# Altium integrated library STMicroelectronics STM32 F4.IntLib: 139 symbols (part 15 of 29)
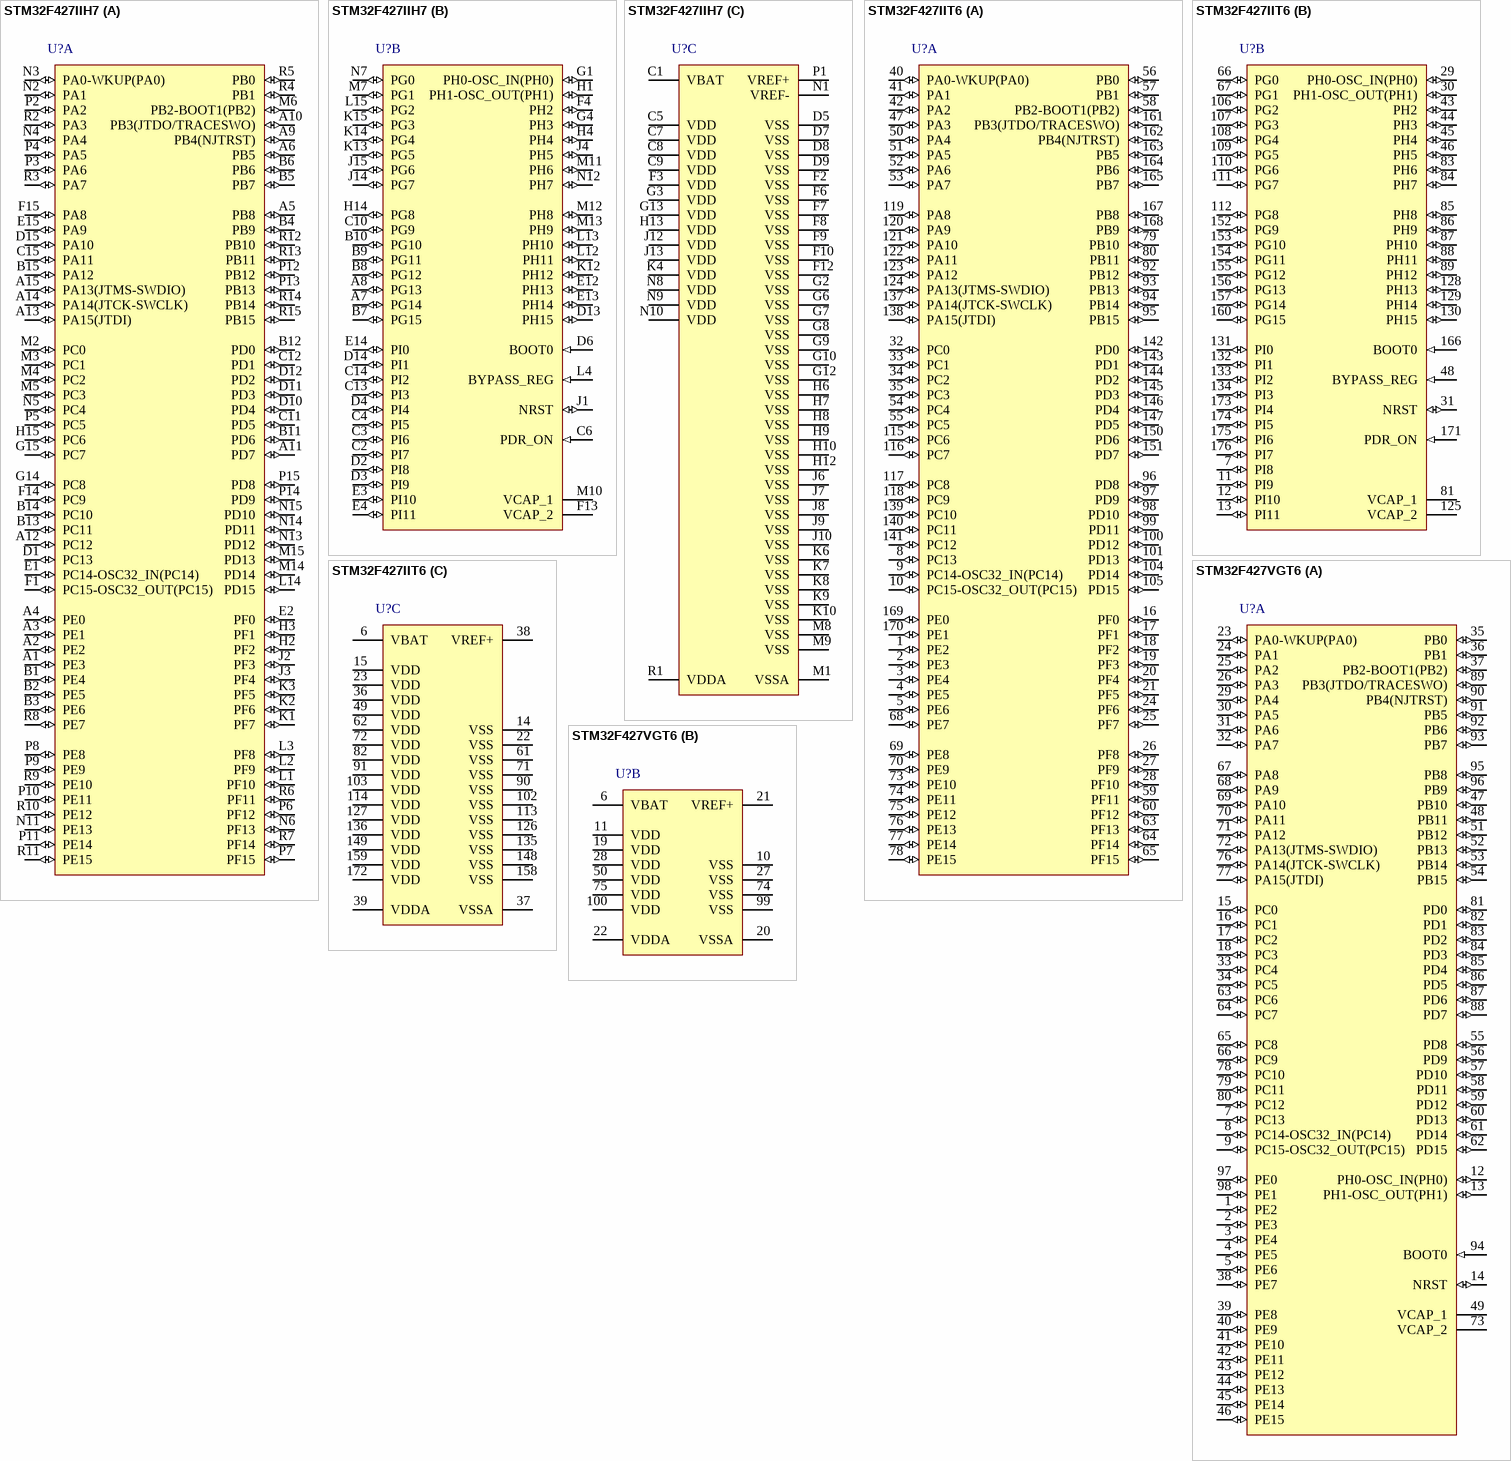
[diagram p53: symbols STM32F427IIH7 to STM32F427VGT6]

## STM32F427IIT6
designator U?
ARM Cortex-M4 32-bit MCU+FPU, 210 DMIPS, 2048 kB Flash, 256 kB Internal RAM, 140 I/Os, 176-pin LQFP, -40 to 85 degC, Tray; Manufacturer: STMicroelectronics; PartNumber: STM32F427IIT6; D/A Converter: 2x12-bit; FLASH Size (Prog) (kB): 2048; I/Os (High Current): 140; Internal RAM Size (kB): 256; Operating Frequency(F) (Processor speed) (MHz): 168; Supply Voltage(Vcc) max (V): 3.6; Supply Voltage(Vcc) min (V): 1.8; DatasheetVersion: Rev. 1; PackageVersion: Rev. 4, 06/2013; PackageReference: LQFP176; PackageDescription: 176-Pin Low Profile Quad Flat Package, 24 x 24 mm Body, 0.5 mm Pitch; Supplier 1: Digi-Key; Supplier Part Number 1: 497-14051-ND; Supplier 2: Farnell; Supplier Part Number 2: 2333367; Supplier 3: Newark; Supplier Part Number 3: 99W9925; Supplier 4: Newark; Supplier Part Number 4: 66W7310; Supplier 5: Mouser; Supplier Part Number 5: 511-STM32F427IIT6; Core: ARM Cortex-M4; Packing: Tray; Mounting Technology: Surface Mount; ComponentLink1Description: Manufacturer URL; ComponentLink1URL: http://www.st.com/web/en/home.html; ComponentLink2Description: Datasheet; ComponentLink2URL: http://www.st.com/st-web-ui/static/active/en/resource/technical/document/datasheet/DM00071990.pdf; ComponentLink3Description: Package Specification; ComponentLink3URL: http://www.st.com/st-web-ui/static/active/en/resource/technical/document/datasheet/DM00035129.pdf
footprint STM-LQFP176_N (Thin QFP, 176-Leads, Body 24x24mm, Pitch 0.5mm, IPC Medium Density)
footprint STM-LQFP176_L (Thin QFP, 176-Leads, Body 24x24mm, Pitch 0.5mm, IPC High Density)
footprint STM-LQFP176_M (Thin QFP, 176-Leads, Body 24x24mm, Pitch 0.5mm, IPC Low Density)
part A pins: 1 PE2 (io) "PE2/TRACECLK,FSMC_A23,ETH_MII_TXD3,EVENTOUT,SPI4_SCK", 2 PE3 (io) "PE3/TRACED0,FSMC_A19,EVENTOUT,SPI4_NSS", 3 PE4 (io) "PE4/TRACED1,FSMC_A20,DCMI_D4,EVENTOUT,SPI4_NSS", 4 PE5 (io) "PE5/TRACED2,FSMC_A21,TIM9_CH1,DCMI_D6,EVENTOUT,SPI4_MISO", 5 PE6 (io) "PE6/TRACED3,FSMC_A22,TIM9_CH2,DCMI_D7,EVENTOUT,SPI4_MOSI", 8 PC13 (io) "PC13/EVENTOUT/RTC_OUT,RTC_TAMP1,RTC_TS", 9 PC14-OSC32_IN(PC14) (io) "PC14-OSC32_IN(PC14)/EVENTOUT/OSC32_IN", 10 PC15-OSC32_OUT(PC15) (io) "PC15-OSC32_OUT(PC15)/EVENTOUT/OSC32_OUT", 16 PF0 (io) "PF0/FSMC_A0,I2C2_SDA,EVENTOUT", 17 PF1 (io) "PF1/FSMC_A1,I2C2_SCL,EVENTOUT", 18 PF2 (io) "PF2/FSMC_A2,I2C2_SMBA,EVENTOUT", 19 PF3 (io) "PF3/FSMC_A3,EVENTOUT/ADC3_IN9", 20 PF4 (io) "PF4/FSMC_A4,EVENTOUT/ADC3_IN14", 21 PF5 (io) "PF5/FSMC_A5,EVENTOUT/ADC3_IN15", 24 PF6 (io) "PF6/TIM10_CH1,FSMC_NIORD,EVENTOUT,SPI5_NSS,UART7_RX/ADC3_IN4", 25 PF7 (io) "PF7/TIM11_CH1,FSMC_NREG,EVENTOUT,SPI5_SCK,UART7_TX/ADC3_IN5", 26 PF8 (io) "PF8/TIM13_CH1,FSMC_NIOWR,EVENTOUT,SPI5_MISO/ADC3_IN6", 27 PF9 (io) "PF9/TIM14_CH1,FSMC_CD,EVENTOUT,SPI5_MOSI/ADC3_IN7", 28 PF10 (io) "PF10/FSMC_INTR,EVENTOUT,DCMI_D11/ADC3_IN8", 32 PC0 (io) "PC0/OTG_HS_ULPI_STP,EVENTOUT/ADC123_IN10", 33 PC1 (io) "PC1/ETH_MDC,EVENTOUT/ADC123_IN11", 34 PC2 (io) "PC2/SPI2_MISO,OTG_HS_ULPI_DIR,ETH_MII_TXD2,I2S2ext_SD,EVENTOUT/ADC123_IN12", 35 PC3 (io) "PC3/SPI2_MOSI/I2S2_SD,OTG_HS_ULPI_NXT,ETH_MII_TX_CLK,EVENTOUT/ADC123_IN13", 40 PA0-WKUP(PA0) (io) "PA0-WKUP(PA0)/USART2_CTS,UART4_TX,ETH_MII_CRS,TIM2_CH1_ETR,TIM5_CH1,TIM8_ETR,EVENTOUT/ADC123_IN0,WKUP", 41 PA1 (io) "PA1/USART2_RTS,UART4_RX,ETH_RMII_REF_CLK,ETH_MII_RX_CLK,TIM5_CH2,TIMM2_CH2,EVENTOUT/ADC123_IN1", 42 PA2 (io) "PA2/USART2_TX,TIM5_CH3,TIM9_CH1,TIM2_CH3,ETH_MDIO,EVENTOUT/ADC123_IN2", 47 PA3 (io) "PA3/USART2_RX,TIM5_CH4,TIM9_CH2,TIM2_CH4,OTG_HS_ULPI_D0,ETH_MII_COL,EVENTOUT/ADC123_IN3", 50 PA4 (io) "PA4/SPI1_NSS,SPI3_NSS,USART2_CK,DCMI_HSYNC,OTG_HS_SOF,I2S3_WS,EVENTOUT/ADC12_IN4,DAC1_OUT", 51 PA5 (io) "PA5/SPI1_SCK,OTG_HS_ULPI_CK,TIM2_CH1_ETR,TIM8_CH1N,EVENTOUT/ADC12_IN5,DAC2_OUT", 52 PA6 (io) "PA6/SPI1_MISO,TIM8_BKIN,TIM13_CH1,DCMI_PIXCLK,TIM3_CH1,TIM1_BKIN,EVENTOUT/ADC12_IN6", 53 PA7 (io) "PA7/SPI1_MOSI,TIM8_CH1N,TIM14_CH1,TIM3_CH2,ETH_MII_RX_DV,TIM1_CH1N,ETH_RMII_CRS_DV,EVENTOUT/ADC12_IN7", 54 PC4 (io) "PC4/ETH_RMII_RX_D0,ETH_MII_RX_D0,EVENTOUT/ADC12_IN14", 55 PC5 (io) "PC5/ETH_RMII_RX_D1,ETH_MII_RX_D1,EVENTOUT/ADC12_IN15", 56 PB0 (io) "PB0/TIM3_CH3,TIM8_CH2N,OTG_HS_ULPI_D1,ETH_MII_RXD2,TIM1_CH2N,EVENTOUT/ADC12_IN8", 57 PB1 (io) "PB1/TIM3_CH4,TIM8_CH3N,OTG_HS_ULPI_D2,ETH_MII_RXD3,TIM1_CH3N,EVENTOUT/ADC12_IN9", 58 PB2-BOOT1(PB2) (io) "PB2-BOOT1(PB2)/EVENTOUT", 59 PF11 (io) "PF11/DCMI_D12,EVENTOUT,SPI5_MOSI", 60 PF12 (io) "PF12/FSMC_A6,EVENTOUT", 63 PF13 (io) "PF13/FSMC_A7,EVENTOUT", 64 PF14 (io) "PF14/FSMC_A8,EVENTOUT", 65 PF15 (io) "PF15/FSMC_A9,EVENTOUT", 68 PE7 (io) "PE7/FSMC_D4,TIM1_ETR,EVENTOUT,UART7_RX", 69 PE8 (io) "PE8/FSMC_D5,TIM1_CH1N,EVENTOUT,UART7_TX", 70 PE9 (io) "PE9/FSMC_D6,TIM1_CH1,EVENTOUT", 73 PE10 (io) "PE10/FSMC_D7,TIM1_CH2N,EVENTOUT", 74 PE11 (io) "PE11/FSMC_D8,TIM1_CH2,EVENTOUT,SPI4_NSS", 75 PE12 (io) "PE12/FSMC_D9,TIM1_CH3N,EVENTOUT,SPI4_SCK", 76 PE13 (io) "PE13/FSMC_D10,TIM1_CH3,EVENTOUT,SPI4_MISO", 77 PE14 (io) "PE14/FSMC_D11,TIM1_CH4,EVENTOUT,SPI4_MOSI", 78 PE15 (io) "PE15/FSMC_D12,TIM1_BKIN,EVENTOUT", 79 PB10 (io) "PB10/SPI2_SCK/I2S2_CK,I2C2_SCL,USART3_TX,OTG_HS_ULPI_D3,ETH_MII_RX_ER,TIM2_CH3,EVENTOUT", 80 PB11 (io) "PB11/I2C2_SDA,USART3_RX,OTG_HS_ULPI_D4,ETH_RMII_TX_EN,ETH_MII_TX_EN,TIM2_CH4,EVENTOUT", 92 PB12 (io) "PB12/SPI2_NSS/I2S2_WS,I2C2_SMBA,USART3_CK,TIM1_BKIN,CAN2_RX,OTG_HS_ULPI_D5,ETH_RMII_TXD0,ETH_MII_TXD0,OTG_HS_ID,EVENTOUT", 93 PB13 (io) "PB13/SPI2_SCK/I2S2_CK,USART3_CTS,TIM1_CH1N,CAN2_TX,OTG_HS_ULPI_D6,ETH_RMII_TXD1,ETH_MII_TXD1,EVENTOUT/OTG_HS_VBUS", 94 PB14 (io) "PB14/SPI2_MISO,TIM1_CH2N,TIM12_CH1,OTG_HS_DM,USART3_RTS,TIM8_CH2N,I2S2ext_SD,EVENTOUT", 95 PB15 (io) "PB15/SPI2_MOSI/I2S2_SD,TIM1_CH3N,TIM8_CH3N,TIM12_CH2,OTG_HS_DP,EVENTOUT,RTC_REFIN", 96 PD8 (io) "PD8/FSMC_D13,USART3_TX,EVENTOUT", 97 PD9 (io) "PD9/FSMC_D14,USART3_RX,EVENTOUT", 98 PD10 (io) "PD10/FSMC_D15,USART3_CK,EVENTOUT", 99 PD11 (io) "PD11/FSMC_CLE,FSMC_A16,USART3_CTS,EVENTOUT", 100 PD12 (io) "PD12/FSMC_ALE,FSMC_A17,TIM4_CH1,USART3_RTS,EVENTOUT", 101 PD13 (io) "PD13/FSMC_A18,TIM4_CH2,EVENTOUT", 104 PD14 (io) "PD14/FSMC_D0,TIM4_CH3,EVENTOUT", 105 PD15 (io) "PD15/FSMC_D1,TIM4_CH4,EVENTOUT", 115 PC6 (io) "PC6/I2S2_MCK,TIM8_CH1,SDIO_D6,USART6_TX,DCMI_D0,TIM3_CH1,EVENTOUT", 116 PC7 (io) "PC7/I2S3_MCK,TIM8_CH2,SDIO_D7,USART6_RX,DCMI_D1,TIM3_CH2,EVENTOUT", 117 PC8 (io) "PC8/TIM8_CH3,SDIO_D0,TIM3_CH3,USART6_CK,DCMI_D2,EVENTOUT", 118 PC9 (io) "PC9/I2S_CKIN,MCO2,TIM8_CH4,SDIO_D1,I2C3_SDA,DCMI_D3,TIM3_CH4,EVENTOUT", 119 PA8 (io) "PA8/MCO1,USART1_CK,TIM1_CH1,I2C3_SCL,OTG_FS_SOF,EVENTOUT", 120 PA9 (io) "PA9/USART1_TX,TIM1_CH2,I2C3_SMBA,DCMI_D0,EVENTOUT/OTG_FS_VBUS", 121 PA10 (io) "PA10/USART1_RX,TIM1_CH3,OTG_FS_ID,DCMI_D1,EVENTOUT", 122 PA11 (io) "PA11/USART1_CTS,CAN1_RX,TIM1_CH4,OTG_FS_DM,EVENTOUT", 123 PA12 (io) "PA12/USART1_RTS,CAN1_TX,TIM1_ETR,OTG_FS_DP,EVENTOUT", 124 PA13(JTMS-SWDIO) (io) "PA13(JTMS-SWDIO)/JTMS-SWDIO,EVENTOUT", 137 PA14(JTCK-SWCLK) (io) "PA14(JTCK-SWCLK)/JTCK-SWCLK,EVENTOUT", 138 PA15(JTDI) (io) "PA15(JTDI)/JTDI,SPI3_NSS,I2S3_WS,TIM2_CH1_ETR,SPI1_NSS,EVENTOUT", 139 PC10 (io) "PC10/SPI3_SCK/I2S3_CK,UART4_TX,SDIO_D2,DCMI_D8,USART3_TX,EVENTOUT", 140 PC11 (io) "PC11/UART4_RX,SPI3_MISO,SDIO_D3,DCMI_D4,USART3_RX,I2S3ext_SD,EVENTOUT", 141 PC12 (io) "PC12/UART5_TX,SDIO_CK,DCMI_D9,SPI3_MOSI,I2S3_SD,USART3_CK,EVENTOUT", 142 PD0 (io) "PD0/FSMC_D2,CAN1_RX,EVENTOUT", 143 PD1 (io) "PD1/FSMC_D3,CAN1_TX,EVENTOUT", 144 PD2 (io) "PD2/TIM3_ETR,UART5_RX,SDIO_CMD,DCMI_D11,EVENTOUT", 145 PD3 (io) "PD3/FSMC_CLK,USART2_CTS,EVENTOUT,SPI2_SCK,I2S2_CK,DCMI_D5", 146 PD4 (io) "PD4/FSMC_NOE,USART2_RTS,EVENTOUT", 147 PD5 (io) "PD5/FSMC_NWE,USART2_TX,EVENTOUT", 150 PD6 (io) "PD6/FSMC_NWAIT,USART2_RX,EVENTOUT,SPI3_MOSI,I2S3_MOSI,DCMI_D10", 151 PD7 (io) "PD7/USART2_CK,FSMC_NE1,FSMC_NCE2,EVENTOUT", 161 PB3(JTDO/TRACESWO) (io) "PB3(JTDO/TRACESWO)/JTDO/TRACESWO,SPI3_SCK/I2S3_CK,TIM2_CH2,SPI1_SCK,EVENTOUT", 162 PB4(NJTRST) (io) "PB4(NJTRST)/NJTRST,SPI3_MISO,TIM3_CH1,SPI1_MISO,I2S3ext_SD,EVENTOUT", 163 PB5 (io) "PB5/I2C1_SMBA,CAN2_RX,OTG_HS_ULPI_D7,ETH_PPS_OUT,TIM3_CH2,SPI1_MOSI,SPI3_MOSI,DCMI_D10,I2S3_SD,EVENTOUT", 164 PB6 (io) "PB6/I2C1_SCL,TIM4_CH1,CAN2_TX,DCMI_D5,USART1_TX,EVENTOUT", 165 PB7 (io) "PB7/I2C1_SDA,FSMC_NL(NADV),DCMI_VSYNC,USART1_RX,TIM4_CH2,EVENTOUT", 167 PB8 (io) "PB8/TIM4_CH3,SDIO_D4,TIM10_CH1,DCMI_D6,ETH_MII_TXD3,I2C1_SCL,CAN1_RX,EVENTOUT", 168 PB9 (io) "PB9/SPI2_NSS/I2S2_WS,TIM4_CH4,TIM11_CH1,SDIO_D5,DCMI_D7,I2C1_SDA,CAN1_TX,EVENTOUT", 169 PE0 (io) "PE0/TIM4_ETR,FSMC_NBL0,DCMI_D2,EVENTOUT,UART8_RX", 170 PE1 (io) "PE1/FSMC_NBL1,DCMI_D3,EVENTOUT,UART8_TX"
part B pins: 7 PI8 (io) "PI8/EVENTOUT/RTC_TAMP1,RTC_TAMP2,RTC_TS", 11 PI9 (io) "PI9/CAN1_RX,EVENTOUT", 12 PI10 (io) "PI10/ETH_MII_RX_ER,EVENTOUT", 13 PI11 (io) "PI11/OTG_HS_ULPI_DIR,EVENTOUT", 29 PH0-OSC_IN(PH0) (io) "PH0-OSC_IN(PH0)/EVENTOUT/OSC_IN", 30 PH1-OSC_OUT(PH1) (io) "PH1-OSC_OUT(PH1)/EVENTOUT/OSC_OUT", 31 NRST (io), 43 PH2 (io) "PH2/ETH_MII_CRS,EVENTOUT", 44 PH3 (io) "PH3/ETH_MII_COL,EVENTOUT", 45 PH4 (io) "PH4/I2C2_SCL,OTG_HS_ULPI_NXT,EVENTOUT", 46 PH5 (io) "PH5/I2C2_SDA,EVENTOUT,SPI5_NSS", 48 BYPASS_REG (in), 66 PG0 (io) "PG0/FSMC_A10,EVENTOUT", 67 PG1 (io) "PG1/FSMC_A11,EVENTOUT", 81 VCAP_1 (power), 83 PH6 (io) "PH6/I2C2_SMBA,TIM12_CH1,ETH_MII_RXD2,EVENTOUT,SPI5_SCK,DCMI_D8", 84 PH7 (io) "PH7/I2C3_SCL,ETH_MII_RXD3,EVENTOUT,SPI5_MISO,DCMI_D9", 85 PH8 (io) "PH8/I2C3_SDA,DCMI_HSYNC,EVENTOUT", 86 PH9 (io) "PH9/I2C3_SMBA,TIM12_CH2,DCMI_D0,EVENTOUT", 87 PH10 (io) "PH10/TIM5_CH1,DCMI_D1,EVENTOUT", 88 PH11 (io) "PH11/TIM5_CH2,DCMI_D2,EVENTOUT", 89 PH12 (io) "PH12/TIM5_CH3,DCMI_D3,EVENTOUT", 106 PG2 (io) "PG2/FSMC_A12,EVENTOUT", 107 PG3 (io) "PG3/FSMC_A13,EVENTOUT", 108 PG4 (io) "PG4/FSMC_A14,EVENTOUT", 109 PG5 (io) "PG5/FSMC_A15,EVENTOUT", 110 PG6 (io) "PG6/FSMC_INT2,EVENTOUT,DCMI_D12", 111 PG7 (io) "PG7/FSMC_INT3,USART6_CK,EVENTOUT,DCMI_D13", 112 PG8 (io) "PG8/USART6_RTS,ETH_PPS_OUT,EVENTOUT,SPI6_NSS", 125 VCAP_2 (power), 128 PH13 (io) "PH13/TIM8_CH1N,CAN1_TX,EVENTOUT", 129 PH14 (io) "PH14/TIM8_CH2N,DCMI_D4,EVENTOUT", 130 PH15 (io) "PH15/TIM8_CH3N,DCMI_D11,EVENTOUT", 131 PI0 (io) "PI0/TIM5_CH4,SPI2_NSS,I2S2_WS,DCMI_D13,EVENTOUT", 132 PI1 (io) "PI1/SPI2_SCK,I2S2_CK,DCMI_D8,EVENTOUT", 133 PI2 (io) "PI2/TIM8_CH4,SPI2_MISO,DCMI_D9,I2S2ext_SD,EVENTOUT", 134 PI3 (io) "PI3/TIM8_ETR,SPI2_MOSI,I2S2_SD,DCMI_D10,EVENTOUT", 152 PG9 (io) "PG9/USART6_RX,FSMC_NE2,FSMC_NCE3,EVENTOUT", 153 PG10 (io) "PG10/FSMC_NCE4_1,FSMC_NE3,EVENTOUT,DCMI_D2", 154 PG11 (io) "PG11/FSMC_NCE4_2,ETH_MII_TX_EN,ETH_RMII_TX_EN,EVENTOUT,DCMI_D3", 155 PG12 (io) "PG12/FSMC_NE4,USART6_RTS,EVENTOUT,SPI6_MISO", 156 PG13 (io) "PG13/FSMC_A24,USART6_CTS,ETH_MII_TXD0,ETH_RMII_TXD0,EVENTOUT,SPI6_SCK", 157 PG14 (io) "PG14/FSMC_A25,USART6_TX,ETH_MII_TXD1,ETH_RMII_TXD1,EVENTOUT,SPI6_MOSI", 160 PG15 (io) "PG15/USART6_CTS,DCMI_D13,EVENTOUT", 166 BOOT0 (in) "BOOT0/VPP", 171 PDR_ON (in), 173 PI4 (io) "PI4/TIM8_BKIN,DCMI_D5,EVENTOUT", 174 PI5 (io) "PI5/TIM8_CH1,DCMI_VSYNC,EVENTOUT", 175 PI6 (io) "PI6/TIM8_CH2,DCMI_D6,EVENTOUT", 176 PI7 (io) "PI7/TIM8_CH3,DCMI_D7,EVENTOUT"
part C pins: 6 VBAT (power), 14 VSS (power), 15 VDD (power), 22 VSS (power), 23 VDD (power), 36 VDD (power), 37 VSSA (power), 38 VREF+ (power), 39 VDDA (power), 49 VDD (power), 61 VSS (power), 62 VDD (power), 71 VSS (power), 72 VDD (power), 82 VDD (power), 90 VSS (power), 91 VDD (power), 102 VSS (power), 103 VDD (power), 113 VSS (power), 114 VDD (power), 126 VSS (power), 127 VDD (power), 135 VSS (power), 136 VDD (power), 148 VSS (power), 149 VDD (power), 158 VSS (power), 159 VDD (power), 172 VDD (power)

## STM32F427VGT6
designator U?
ARM Cortex-M4 32-bit MCU+FPU, 210 DMIPS, 1024 kB Flash, 256 kB Internal RAM, 82 I/Os, 100-pin LQFP, -40 to 85 degC, Tray; Manufacturer: STMicroelectronics; PartNumber: STM32F427VGT6; D/A Converter: 2x12-bit; FLASH Size (Prog) (kB): 1024; I/Os (High Current): 82; Internal RAM Size (kB): 256; Operating Frequency(F) (Processor speed) (MHz): 168; Supply Voltage(Vcc) max (V): 3.6; Supply Voltage(Vcc) min (V): 1.8; DatasheetVersion: Rev. 1; PackageVersion: Rev. 1, 06/2013; PackageReference: LQFP100; PackageDescription: 100-Pin Low Profile Quad Flat Package, 14 x 14 mm Body, 0.5 mm Pitch; Supplier 1: Digi-Key; Supplier Part Number 1: STM32F427VGT6-ND; Supplier 2: Farnell; Supplier Part Number 2: 2333368; Supplier 3: Newark; Supplier Part Number 3: 99W9926; Supplier 4: Newark; Supplier Part Number 4: 66W7311; Supplier 5: Mouser; Supplier Part Number 5: 511-STM32F427VGT6; Core: ARM Cortex-M4; Packing: Tray; Mounting Technology: Surface Mount; ComponentLink1Description: Manufacturer URL; ComponentLink1URL: http://www.st.com/web/en/home.html; ComponentLink2Description: Datasheet; ComponentLink2URL: http://www.st.com/st-web-ui/static/active/en/resource/technical/document/datasheet/DM00071990.pdf; ComponentLink3Description: Package Specification; ComponentLink3URL: http://www.st.com/st-web-ui/static/active/en/resource/technical/document/data_brief/DM00071938.pdf
footprint STM-LQFP100_N (Thin QFP, 100-Leads, Body 14x14mm, Pitch 0.5mm, IPC Medium Density)
footprint STM-LQFP100_L (Thin QFP, 100-Leads, Body 14x14mm, Pitch 0.5mm, IPC High Density)
footprint STM-LQFP100_M (Thin QFP, 100-Leads, Body 14x14mm, Pitch 0.5mm, IPC Low Density)
footprint STM-LQFP100_V (Thin QFP, 100-Leads, Body 14x14mm, Pitch 0.5mm, ST Recommended)
part A pins: 1 PE2 (io) "PE2/TRACECLK,FSMC_A23,ETH_MII_TXD3,EVENTOUT,SPI4_SCK", 2 PE3 (io) "PE3/TRACED0,FSMC_A19,EVENTOUT,SPI4_NSS", 3 PE4 (io) "PE4/TRACED1,FSMC_A20,DCMI_D4,EVENTOUT,SPI4_NSS", 4 PE5 (io) "PE5/TRACED2,FSMC_A21,TIM9_CH1,DCMI_D6,EVENTOUT,SPI4_MISO", 5 PE6 (io) "PE6/TRACED3,FSMC_A22,TIM9_CH2,DCMI_D7,EVENTOUT,SPI4_MOSI", 7 PC13 (io) "PC13/EVENTOUT/RTC_OUT,RTC_TAMP1,RTC_TS", 8 PC14-OSC32_IN(PC14) (io) "PC14-OSC32_IN(PC14)/EVENTOUT/OSC32_IN", 9 PC15-OSC32_OUT(PC15) (io) "PC15-OSC32_OUT(PC15)/EVENTOUT/OSC32_OUT", 12 PH0-OSC_IN(PH0) (io) "PH0-OSC_IN(PH0)/EVENTOUT/OSC_IN", 13 PH1-OSC_OUT(PH1) (io) "PH1-OSC_OUT(PH1)/EVENTOUT/OSC_OUT", 14 NRST (io), 15 PC0 (io) "PC0/OTG_HS_ULPI_STP,EVENTOUT/ADC123_IN10", 16 PC1 (io) "PC1/ETH_MDC,EVENTOUT/ADC123_IN11", 17 PC2 (io) "PC2/SPI2_MISO,OTG_HS_ULPI_DIR,ETH_MII_TXD2,I2S2ext_SD,EVENTOUT/ADC123_IN12", 18 PC3 (io) "PC3/SPI2_MOSI/I2S2_SD,OTG_HS_ULPI_NXT,ETH_MII_TX_CLK,EVENTOUT/ADC123_IN13", 23 PA0-WKUP(PA0) (io) "PA0-WKUP(PA0)/USART2_CTS,UART4_TX,ETH_MII_CRS,TIM2_CH1_ETR,TIM5_CH1,TIM8_ETR,EVENTOUT/ADC123_IN0,WKUP", 24 PA1 (io) "PA1/USART2_RTS,UART4_RX,ETH_RMII_REF_CLK,ETH_MII_RX_CLK,TIM5_CH2,TIMM2_CH2,EVENTOUT/ADC123_IN1", 25 PA2 (io) "PA2/USART2_TX,TIM5_CH3,TIM9_CH1,TIM2_CH3,ETH_MDIO,EVENTOUT/ADC123_IN2", 26 PA3 (io) "PA3/USART2_RX,TIM5_CH4,TIM9_CH2,TIM2_CH4,OTG_HS_ULPI_D0,ETH_MII_COL,EVENTOUT/ADC123_IN3", 29 PA4 (io) "PA4/SPI1_NSS,SPI3_NSS,USART2_CK,DCMI_HSYNC,OTG_HS_SOF,I2S3_WS,EVENTOUT/ADC12_IN4,DAC1_OUT", 30 PA5 (io) "PA5/SPI1_SCK,OTG_HS_ULPI_CK,TIM2_CH1_ETR,TIM8_CH1N,EVENTOUT/ADC12_IN5,DAC2_OUT", 31 PA6 (io) "PA6/SPI1_MISO,TIM8_BKIN,TIM13_CH1,DCMI_PIXCLK,TIM3_CH1,TIM1_BKIN,EVENTOUT/ADC12_IN6", 32 PA7 (io) "PA7/SPI1_MOSI,TIM8_CH1N,TIM14_CH1,TIM3_CH2,ETH_MII_RX_DV,TIM1_CH1N,ETH_RMII_CRS_DV,EVENTOUT/ADC12_IN7", 33 PC4 (io) "PC4/ETH_RMII_RX_D0,ETH_MII_RX_D0,EVENTOUT/ADC12_IN14", 34 PC5 (io) "PC5/ETH_RMII_RX_D1,ETH_MII_RX_D1,EVENTOUT/ADC12_IN15", 35 PB0 (io) "PB0/TIM3_CH3,TIM8_CH2N,OTG_HS_ULPI_D1,ETH_MII_RXD2,TIM1_CH2N,EVENTOUT/ADC12_IN8", 36 PB1 (io) "PB1/TIM3_CH4,TIM8_CH3N,OTG_HS_ULPI_D2,ETH_MII_RXD3,TIM1_CH3N,EVENTOUT/ADC12_IN9", 37 PB2-BOOT1(PB2) (io) "PB2-BOOT1(PB2)/EVENTOUT", 38 PE7 (io) "PE7/FSMC_D4,TIM1_ETR,EVENTOUT,UART7_RX", 39 PE8 (io) "PE8/FSMC_D5,TIM1_CH1N,EVENTOUT,UART7_TX", 40 PE9 (io) "PE9/FSMC_D6,TIM1_CH1,EVENTOUT", 41 PE10 (io) "PE10/FSMC_D7,TIM1_CH2N,EVENTOUT", 42 PE11 (io) "PE11/FSMC_D8,TIM1_CH2,EVENTOUT,SPI4_NSS", 43 PE12 (io) "PE12/FSMC_D9,TIM1_CH3N,EVENTOUT,SPI4_SCK", 44 PE13 (io) "PE13/FSMC_D10,TIM1_CH3,EVENTOUT,SPI4_MISO", 45 PE14 (io) "PE14/FSMC_D11,TIM1_CH4,EVENTOUT,SPI4_MOSI", 46 PE15 (io) "PE15/FSMC_D12,TIM1_BKIN,EVENTOUT", 47 PB10 (io) "PB10/SPI2_SCK/I2S2_CK,I2C2_SCL,USART3_TX,OTG_HS_ULPI_D3,ETH_MII_RX_ER,TIM2_CH3,EVENTOUT", 48 PB11 (io) "PB11/I2C2_SDA,USART3_RX,OTG_HS_ULPI_D4,ETH_RMII_TX_EN,ETH_MII_TX_EN,TIM2_CH4,EVENTOUT", 49 VCAP_1 (power), 51 PB12 (io) "PB12/SPI2_NSS/I2S2_WS,I2C2_SMBA,USART3_CK,TIM1_BKIN,CAN2_RX,OTG_HS_ULPI_D5,ETH_RMII_TXD0,ETH_MII_TXD0,OTG_HS_ID,EVENTOUT", 52 PB13 (io) "PB13/SPI2_SCK/I2S2_CK,USART3_CTS,TIM1_CH1N,CAN2_TX,OTG_HS_ULPI_D6,ETH_RMII_TXD1,ETH_MII_TXD1,EVENTOUT/OTG_HS_VBUS", 53 PB14 (io) "PB14/SPI2_MISO,TIM1_CH2N,TIM12_CH1,OTG_HS_DM,USART3_RTS,TIM8_CH2N,I2S2ext_SD,EVENTOUT", 54 PB15 (io) "PB15/SPI2_MOSI/I2S2_SD,TIM1_CH3N,TIM8_CH3N,TIM12_CH2,OTG_HS_DP,EVENTOUT,RTC_REFIN", 55 PD8 (io) "PD8/FSMC_D13,USART3_TX,EVENTOUT", 56 PD9 (io) "PD9/FSMC_D14,USART3_RX,EVENTOUT", 57 PD10 (io) "PD10/FSMC_D15,USART3_CK,EVENTOUT", 58 PD11 (io) "PD11/FSMC_CLE,FSMC_A16,USART3_CTS,EVENTOUT", 59 PD12 (io) "PD12/FSMC_ALE,FSMC_A17,TIM4_CH1,USART3_RTS,EVENTOUT", 60 PD13 (io) "PD13/FSMC_A18,TIM4_CH2,EVENTOUT", 61 PD14 (io) "PD14/FSMC_D0,TIM4_CH3,EVENTOUT", 62 PD15 (io) "PD15/FSMC_D1,TIM4_CH4,EVENTOUT", 63 PC6 (io) "PC6/I2S2_MCK,TIM8_CH1,SDIO_D6,USART6_TX,DCMI_D0,TIM3_CH1,EVENTOUT", 64 PC7 (io) "PC7/I2S3_MCK,TIM8_CH2,SDIO_D7,USART6_RX,DCMI_D1,TIM3_CH2,EVENTOUT", 65 PC8 (io) "PC8/TIM8_CH3,SDIO_D0,TIM3_CH3,USART6_CK,DCMI_D2,EVENTOUT", 66 PC9 (io) "PC9/I2S_CKIN,MCO2,TIM8_CH4,SDIO_D1,I2C3_SDA,DCMI_D3,TIM3_CH4,EVENTOUT", 67 PA8 (io) "PA8/MCO1,USART1_CK,TIM1_CH1,I2C3_SCL,OTG_FS_SOF,EVENTOUT", 68 PA9 (io) "PA9/USART1_TX,TIM1_CH2,I2C3_SMBA,DCMI_D0,EVENTOUT/OTG_FS_VBUS", 69 PA10 (io) "PA10/USART1_RX,TIM1_CH3,OTG_FS_ID,DCMI_D1,EVENTOUT", 70 PA11 (io) "PA11/USART1_CTS,CAN1_RX,TIM1_CH4,OTG_FS_DM,EVENTOUT", 71 PA12 (io) "PA12/USART1_RTS,CAN1_TX,TIM1_ETR,OTG_FS_DP,EVENTOUT", 72 PA13(JTMS-SWDIO) (io) "PA13(JTMS-SWDIO)/JTMS-SWDIO,EVENTOUT", 73 VCAP_2 (power), 76 PA14(JTCK-SWCLK) (io) "PA14(JTCK-SWCLK)/JTCK-SWCLK,EVENTOUT", 77 PA15(JTDI) (io) "PA15(JTDI)/JTDI,SPI3_NSS,I2S3_WS,TIM2_CH1_ETR,SPI1_NSS,EVENTOUT", 78 PC10 (io) "PC10/SPI3_SCK/I2S3_CK,UART4_TX,SDIO_D2,DCMI_D8,USART3_TX,EVENTOUT", 79 PC11 (io) "PC11/UART4_RX,SPI3_MISO,SDIO_D3,DCMI_D4,USART3_RX,I2S3ext_SD,EVENTOUT", 80 PC12 (io) "PC12/UART5_TX,SDIO_CK,DCMI_D9,SPI3_MOSI,I2S3_SD,USART3_CK,EVENTOUT", 81 PD0 (io) "PD0/FSMC_D2,CAN1_RX,EVENTOUT", 82 PD1 (io) "PD1/FSMC_D3,CAN1_TX,EVENTOUT", 83 PD2 (io) "PD2/TIM3_ETR,UART5_RX,SDIO_CMD,DCMI_D11,EVENTOUT", 84 PD3 (io) "PD3/FSMC_CLK,USART2_CTS,EVENTOUT,SPI2_SCK,I2S2_CK,DCMI_D5", 85 PD4 (io) "PD4/FSMC_NOE,USART2_RTS,EVENTOUT", 86 PD5 (io) "PD5/FSMC_NWE,USART2_TX,EVENTOUT", 87 PD6 (io) "PD6/FSMC_NWAIT,USART2_RX,EVENTOUT,SPI3_MOSI,I2S3_MOSI,DCMI_D10", 88 PD7 (io) "PD7/USART2_CK,FSMC_NE1,FSMC_NCE2,EVENTOUT", 89 PB3(JTDO/TRACESWO) (io) "PB3(JTDO/TRACESWO)/JTDO/TRACESWO,SPI3_SCK/I2S3_CK,TIM2_CH2,SPI1_SCK,EVENTOUT", 90 PB4(NJTRST) (io) "PB4(NJTRST)/NJTRST,SPI3_MISO,TIM3_CH1,SPI1_MISO,I2S3ext_SD,EVENTOUT", 91 PB5 (io) "PB5/I2C1_SMBA,CAN2_RX,OTG_HS_ULPI_D7,ETH_PPS_OUT,TIM3_CH2,SPI1_MOSI,SPI3_MOSI,DCMI_D10,I2S3_SD,EVENTOUT", 92 PB6 (io) "PB6/I2C1_SCL,TIM4_CH1,CAN2_TX,DCMI_D5,USART1_TX,EVENTOUT", 93 PB7 (io) "PB7/I2C1_SDA,FSMC_NL(NADV),DCMI_VSYNC,USART1_RX,TIM4_CH2,EVENTOUT", 94 BOOT0 (in) "BOOT0/VPP", 95 PB8 (io) "PB8/TIM4_CH3,SDIO_D4,TIM10_CH1,DCMI_D6,ETH_MII_TXD3,I2C1_SCL,CAN1_RX,EVENTOUT", 96 PB9 (io) "PB9/SPI2_NSS/I2S2_WS,TIM4_CH4,TIM11_CH1,SDIO_D5,DCMI_D7,I2C1_SDA,CAN1_TX,EVENTOUT", 97 PE0 (io) "PE0/TIM4_ETR,FSMC_NBL0,DCMI_D2,EVENTOUT,UART8_RX", 98 PE1 (io) "PE1/FSMC_NBL1,DCMI_D3,EVENTOUT,UART8_TX"
part B pins: 6 VBAT (power), 10 VSS (power), 11 VDD (power), 19 VDD (power), 20 VSSA (power), 21 VREF+ (power), 22 VDDA (power), 27 VSS (power), 28 VDD (power), 50 VDD (power), 74 VSS (power), 75 VDD (power), 99 VSS (power), 100 VDD (power)

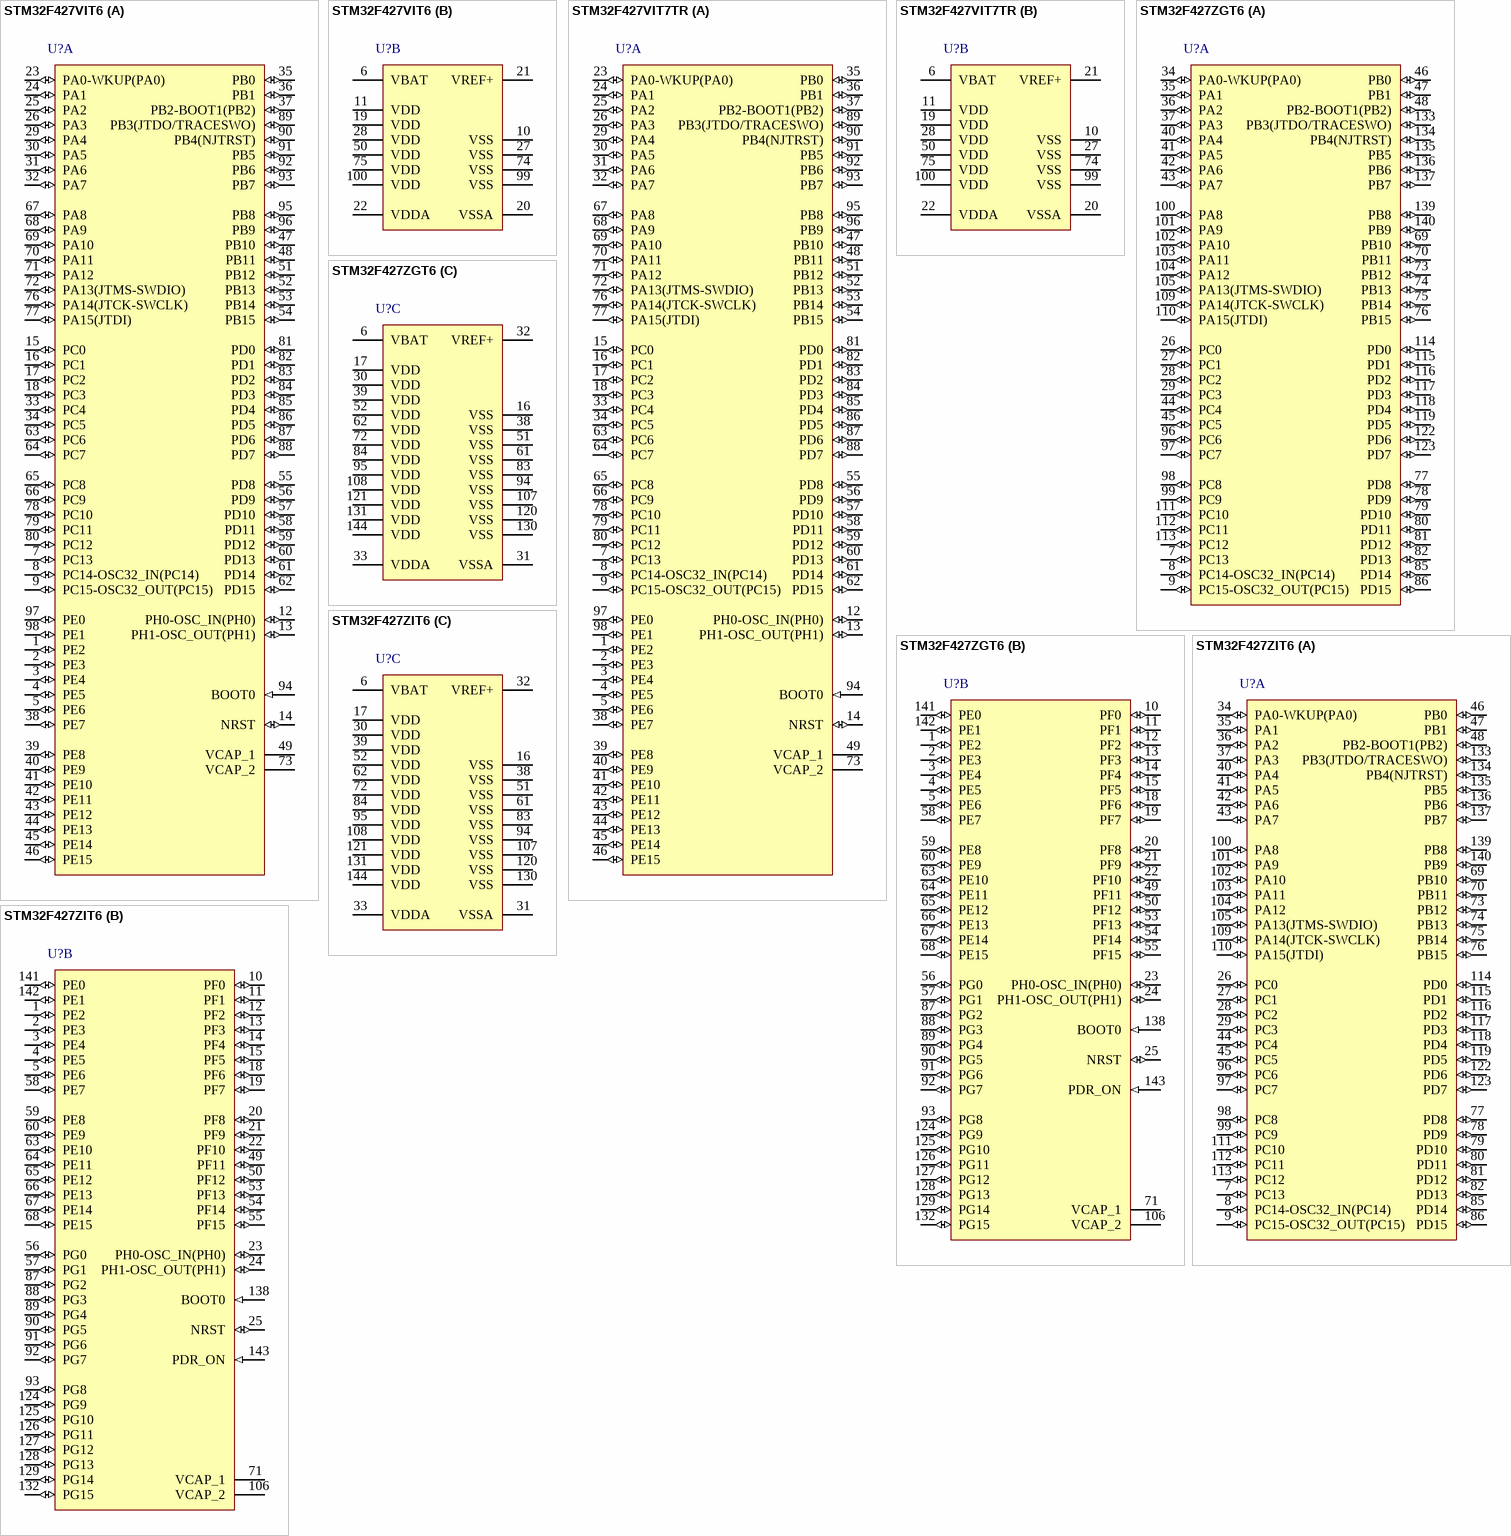
[diagram p20: symbols STM32F427VIT6 to STM32F427ZIT6]

## STM32F427VIT6
designator U?
ARM Cortex-M4 32-bit MCU+FPU, 210 DMIPS, 2048 kB Flash, 256 kB Internal RAM, 82 I/Os, 100-pin LQFP, -40 to 85 degC, Tray; Manufacturer: STMicroelectronics; PartNumber: STM32F427VIT6; D/A Converter: 2x12-bit; FLASH Size (Prog) (kB): 2048; I/Os (High Current): 82; Internal RAM Size (kB): 256; Operating Frequency(F) (Processor speed) (MHz): 168; Supply Voltage(Vcc) max (V): 3.6; Supply Voltage(Vcc) min (V): 1.8; DatasheetVersion: Rev. 1; PackageVersion: Rev. 1, 06/2013; PackageReference: LQFP100; PackageDescription: 100-Pin Low Profile Quad Flat Package, 14 x 14 mm Body, 0.5 mm Pitch; Supplier 1: Digi-Key; Supplier Part Number 1: 497-14049-ND; Supplier 2: Farnell; Supplier Part Number 2: 2333369; Supplier 3: Newark; Supplier Part Number 3: 99W9927; Supplier 4: Newark; Supplier Part Number 4: 66W7312; Supplier 5: Mouser; Supplier Part Number 5: 511-STM32F427VIT6; Core: ARM Cortex-M4; Packing: Tray; Mounting Technology: Surface Mount; ComponentLink1Description: Manufacturer URL; ComponentLink1URL: http://www.st.com/web/en/home.html; ComponentLink2Description: Datasheet; ComponentLink2URL: http://www.st.com/st-web-ui/static/active/en/resource/technical/document/datasheet/DM00071990.pdf; ComponentLink3Description: Package Specification; ComponentLink3URL: http://www.st.com/st-web-ui/static/active/en/resource/technical/document/data_brief/DM00071938.pdf
footprint STM-LQFP100_N (Thin QFP, 100-Leads, Body 14x14mm, Pitch 0.5mm, IPC Medium Density)
footprint STM-LQFP100_L (Thin QFP, 100-Leads, Body 14x14mm, Pitch 0.5mm, IPC High Density)
footprint STM-LQFP100_M (Thin QFP, 100-Leads, Body 14x14mm, Pitch 0.5mm, IPC Low Density)
footprint STM-LQFP100_V (Thin QFP, 100-Leads, Body 14x14mm, Pitch 0.5mm, ST Recommended)
part A pins: 1 PE2 (io) "PE2/TRACECLK,FSMC_A23,ETH_MII_TXD3,EVENTOUT,SPI4_SCK", 2 PE3 (io) "PE3/TRACED0,FSMC_A19,EVENTOUT,SPI4_NSS", 3 PE4 (io) "PE4/TRACED1,FSMC_A20,DCMI_D4,EVENTOUT,SPI4_NSS", 4 PE5 (io) "PE5/TRACED2,FSMC_A21,TIM9_CH1,DCMI_D6,EVENTOUT,SPI4_MISO", 5 PE6 (io) "PE6/TRACED3,FSMC_A22,TIM9_CH2,DCMI_D7,EVENTOUT,SPI4_MOSI", 7 PC13 (io) "PC13/EVENTOUT/RTC_OUT,RTC_TAMP1,RTC_TS", 8 PC14-OSC32_IN(PC14) (io) "PC14-OSC32_IN(PC14)/EVENTOUT/OSC32_IN", 9 PC15-OSC32_OUT(PC15) (io) "PC15-OSC32_OUT(PC15)/EVENTOUT/OSC32_OUT", 12 PH0-OSC_IN(PH0) (io) "PH0-OSC_IN(PH0)/EVENTOUT/OSC_IN", 13 PH1-OSC_OUT(PH1) (io) "PH1-OSC_OUT(PH1)/EVENTOUT/OSC_OUT", 14 NRST (io), 15 PC0 (io) "PC0/OTG_HS_ULPI_STP,EVENTOUT/ADC123_IN10", 16 PC1 (io) "PC1/ETH_MDC,EVENTOUT/ADC123_IN11", 17 PC2 (io) "PC2/SPI2_MISO,OTG_HS_ULPI_DIR,ETH_MII_TXD2,I2S2ext_SD,EVENTOUT/ADC123_IN12", 18 PC3 (io) "PC3/SPI2_MOSI/I2S2_SD,OTG_HS_ULPI_NXT,ETH_MII_TX_CLK,EVENTOUT/ADC123_IN13", 23 PA0-WKUP(PA0) (io) "PA0-WKUP(PA0)/USART2_CTS,UART4_TX,ETH_MII_CRS,TIM2_CH1_ETR,TIM5_CH1,TIM8_ETR,EVENTOUT/ADC123_IN0,WKUP", 24 PA1 (io) "PA1/USART2_RTS,UART4_RX,ETH_RMII_REF_CLK,ETH_MII_RX_CLK,TIM5_CH2,TIMM2_CH2,EVENTOUT/ADC123_IN1", 25 PA2 (io) "PA2/USART2_TX,TIM5_CH3,TIM9_CH1,TIM2_CH3,ETH_MDIO,EVENTOUT/ADC123_IN2", 26 PA3 (io) "PA3/USART2_RX,TIM5_CH4,TIM9_CH2,TIM2_CH4,OTG_HS_ULPI_D0,ETH_MII_COL,EVENTOUT/ADC123_IN3", 29 PA4 (io) "PA4/SPI1_NSS,SPI3_NSS,USART2_CK,DCMI_HSYNC,OTG_HS_SOF,I2S3_WS,EVENTOUT/ADC12_IN4,DAC1_OUT", 30 PA5 (io) "PA5/SPI1_SCK,OTG_HS_ULPI_CK,TIM2_CH1_ETR,TIM8_CH1N,EVENTOUT/ADC12_IN5,DAC2_OUT", 31 PA6 (io) "PA6/SPI1_MISO,TIM8_BKIN,TIM13_CH1,DCMI_PIXCLK,TIM3_CH1,TIM1_BKIN,EVENTOUT/ADC12_IN6", 32 PA7 (io) "PA7/SPI1_MOSI,TIM8_CH1N,TIM14_CH1,TIM3_CH2,ETH_MII_RX_DV,TIM1_CH1N,ETH_RMII_CRS_DV,EVENTOUT/ADC12_IN7", 33 PC4 (io) "PC4/ETH_RMII_RX_D0,ETH_MII_RX_D0,EVENTOUT/ADC12_IN14", 34 PC5 (io) "PC5/ETH_RMII_RX_D1,ETH_MII_RX_D1,EVENTOUT/ADC12_IN15", 35 PB0 (io) "PB0/TIM3_CH3,TIM8_CH2N,OTG_HS_ULPI_D1,ETH_MII_RXD2,TIM1_CH2N,EVENTOUT/ADC12_IN8", 36 PB1 (io) "PB1/TIM3_CH4,TIM8_CH3N,OTG_HS_ULPI_D2,ETH_MII_RXD3,TIM1_CH3N,EVENTOUT/ADC12_IN9", 37 PB2-BOOT1(PB2) (io) "PB2-BOOT1(PB2)/EVENTOUT", 38 PE7 (io) "PE7/FSMC_D4,TIM1_ETR,EVENTOUT,UART7_RX", 39 PE8 (io) "PE8/FSMC_D5,TIM1_CH1N,EVENTOUT,UART7_TX", 40 PE9 (io) "PE9/FSMC_D6,TIM1_CH1,EVENTOUT", 41 PE10 (io) "PE10/FSMC_D7,TIM1_CH2N,EVENTOUT", 42 PE11 (io) "PE11/FSMC_D8,TIM1_CH2,EVENTOUT,SPI4_NSS", 43 PE12 (io) "PE12/FSMC_D9,TIM1_CH3N,EVENTOUT,SPI4_SCK", 44 PE13 (io) "PE13/FSMC_D10,TIM1_CH3,EVENTOUT,SPI4_MISO", 45 PE14 (io) "PE14/FSMC_D11,TIM1_CH4,EVENTOUT,SPI4_MOSI", 46 PE15 (io) "PE15/FSMC_D12,TIM1_BKIN,EVENTOUT", 47 PB10 (io) "PB10/SPI2_SCK/I2S2_CK,I2C2_SCL,USART3_TX,OTG_HS_ULPI_D3,ETH_MII_RX_ER,TIM2_CH3,EVENTOUT", 48 PB11 (io) "PB11/I2C2_SDA,USART3_RX,OTG_HS_ULPI_D4,ETH_RMII_TX_EN,ETH_MII_TX_EN,TIM2_CH4,EVENTOUT", 49 VCAP_1 (power), 51 PB12 (io) "PB12/SPI2_NSS/I2S2_WS,I2C2_SMBA,USART3_CK,TIM1_BKIN,CAN2_RX,OTG_HS_ULPI_D5,ETH_RMII_TXD0,ETH_MII_TXD0,OTG_HS_ID,EVENTOUT", 52 PB13 (io) "PB13/SPI2_SCK/I2S2_CK,USART3_CTS,TIM1_CH1N,CAN2_TX,OTG_HS_ULPI_D6,ETH_RMII_TXD1,ETH_MII_TXD1,EVENTOUT/OTG_HS_VBUS", 53 PB14 (io) "PB14/SPI2_MISO,TIM1_CH2N,TIM12_CH1,OTG_HS_DM,USART3_RTS,TIM8_CH2N,I2S2ext_SD,EVENTOUT", 54 PB15 (io) "PB15/SPI2_MOSI/I2S2_SD,TIM1_CH3N,TIM8_CH3N,TIM12_CH2,OTG_HS_DP,EVENTOUT,RTC_REFIN", 55 PD8 (io) "PD8/FSMC_D13,USART3_TX,EVENTOUT", 56 PD9 (io) "PD9/FSMC_D14,USART3_RX,EVENTOUT", 57 PD10 (io) "PD10/FSMC_D15,USART3_CK,EVENTOUT", 58 PD11 (io) "PD11/FSMC_CLE,FSMC_A16,USART3_CTS,EVENTOUT", 59 PD12 (io) "PD12/FSMC_ALE,FSMC_A17,TIM4_CH1,USART3_RTS,EVENTOUT", 60 PD13 (io) "PD13/FSMC_A18,TIM4_CH2,EVENTOUT", 61 PD14 (io) "PD14/FSMC_D0,TIM4_CH3,EVENTOUT", 62 PD15 (io) "PD15/FSMC_D1,TIM4_CH4,EVENTOUT", 63 PC6 (io) "PC6/I2S2_MCK,TIM8_CH1,SDIO_D6,USART6_TX,DCMI_D0,TIM3_CH1,EVENTOUT", 64 PC7 (io) "PC7/I2S3_MCK,TIM8_CH2,SDIO_D7,USART6_RX,DCMI_D1,TIM3_CH2,EVENTOUT", 65 PC8 (io) "PC8/TIM8_CH3,SDIO_D0,TIM3_CH3,USART6_CK,DCMI_D2,EVENTOUT", 66 PC9 (io) "PC9/I2S_CKIN,MCO2,TIM8_CH4,SDIO_D1,I2C3_SDA,DCMI_D3,TIM3_CH4,EVENTOUT", 67 PA8 (io) "PA8/MCO1,USART1_CK,TIM1_CH1,I2C3_SCL,OTG_FS_SOF,EVENTOUT", 68 PA9 (io) "PA9/USART1_TX,TIM1_CH2,I2C3_SMBA,DCMI_D0,EVENTOUT/OTG_FS_VBUS", 69 PA10 (io) "PA10/USART1_RX,TIM1_CH3,OTG_FS_ID,DCMI_D1,EVENTOUT", 70 PA11 (io) "PA11/USART1_CTS,CAN1_RX,TIM1_CH4,OTG_FS_DM,EVENTOUT", 71 PA12 (io) "PA12/USART1_RTS,CAN1_TX,TIM1_ETR,OTG_FS_DP,EVENTOUT", 72 PA13(JTMS-SWDIO) (io) "PA13(JTMS-SWDIO)/JTMS-SWDIO,EVENTOUT", 73 VCAP_2 (power), 76 PA14(JTCK-SWCLK) (io) "PA14(JTCK-SWCLK)/JTCK-SWCLK,EVENTOUT", 77 PA15(JTDI) (io) "PA15(JTDI)/JTDI,SPI3_NSS,I2S3_WS,TIM2_CH1_ETR,SPI1_NSS,EVENTOUT", 78 PC10 (io) "PC10/SPI3_SCK/I2S3_CK,UART4_TX,SDIO_D2,DCMI_D8,USART3_TX,EVENTOUT", 79 PC11 (io) "PC11/UART4_RX,SPI3_MISO,SDIO_D3,DCMI_D4,USART3_RX,I2S3ext_SD,EVENTOUT", 80 PC12 (io) "PC12/UART5_TX,SDIO_CK,DCMI_D9,SPI3_MOSI,I2S3_SD,USART3_CK,EVENTOUT", 81 PD0 (io) "PD0/FSMC_D2,CAN1_RX,EVENTOUT", 82 PD1 (io) "PD1/FSMC_D3,CAN1_TX,EVENTOUT", 83 PD2 (io) "PD2/TIM3_ETR,UART5_RX,SDIO_CMD,DCMI_D11,EVENTOUT", 84 PD3 (io) "PD3/FSMC_CLK,USART2_CTS,EVENTOUT,SPI2_SCK,I2S2_CK,DCMI_D5", 85 PD4 (io) "PD4/FSMC_NOE,USART2_RTS,EVENTOUT", 86 PD5 (io) "PD5/FSMC_NWE,USART2_TX,EVENTOUT", 87 PD6 (io) "PD6/FSMC_NWAIT,USART2_RX,EVENTOUT,SPI3_MOSI,I2S3_MOSI,DCMI_D10", 88 PD7 (io) "PD7/USART2_CK,FSMC_NE1,FSMC_NCE2,EVENTOUT", 89 PB3(JTDO/TRACESWO) (io) "PB3(JTDO/TRACESWO)/JTDO/TRACESWO,SPI3_SCK/I2S3_CK,TIM2_CH2,SPI1_SCK,EVENTOUT", 90 PB4(NJTRST) (io) "PB4(NJTRST)/NJTRST,SPI3_MISO,TIM3_CH1,SPI1_MISO,I2S3ext_SD,EVENTOUT", 91 PB5 (io) "PB5/I2C1_SMBA,CAN2_RX,OTG_HS_ULPI_D7,ETH_PPS_OUT,TIM3_CH2,SPI1_MOSI,SPI3_MOSI,DCMI_D10,I2S3_SD,EVENTOUT", 92 PB6 (io) "PB6/I2C1_SCL,TIM4_CH1,CAN2_TX,DCMI_D5,USART1_TX,EVENTOUT", 93 PB7 (io) "PB7/I2C1_SDA,FSMC_NL(NADV),DCMI_VSYNC,USART1_RX,TIM4_CH2,EVENTOUT", 94 BOOT0 (in) "BOOT0/VPP", 95 PB8 (io) "PB8/TIM4_CH3,SDIO_D4,TIM10_CH1,DCMI_D6,ETH_MII_TXD3,I2C1_SCL,CAN1_RX,EVENTOUT", 96 PB9 (io) "PB9/SPI2_NSS/I2S2_WS,TIM4_CH4,TIM11_CH1,SDIO_D5,DCMI_D7,I2C1_SDA,CAN1_TX,EVENTOUT", 97 PE0 (io) "PE0/TIM4_ETR,FSMC_NBL0,DCMI_D2,EVENTOUT,UART8_RX", 98 PE1 (io) "PE1/FSMC_NBL1,DCMI_D3,EVENTOUT,UART8_TX"
part B pins: 6 VBAT (power), 10 VSS (power), 11 VDD (power), 19 VDD (power), 20 VSSA (power), 21 VREF+ (power), 22 VDDA (power), 27 VSS (power), 28 VDD (power), 50 VDD (power), 74 VSS (power), 75 VDD (power), 99 VSS (power), 100 VDD (power)

## STM32F427VIT7TR
designator U?
ARM Cortex-M4 32-bit MCU+FPU, 210 DMIPS, 2048 kB Flash, 256 kB Internal RAM, 82 I/Os, 100-pin LQFP, -40 to 105 degC, Tape and Reel; Manufacturer: STMicroelectronics; PartNumber: STM32F427VIT7TR; D/A Converter: 2x12-bit; FLASH Size (Prog) (kB): 2048; I/Os (High Current): 82; Internal RAM Size (kB): 256; Operating Frequency(F) (Processor speed) (MHz): 168; Supply Voltage(Vcc) max (V): 3.6; Supply Voltage(Vcc) min (V): 1.8; DatasheetVersion: Rev. 1; PackageVersion: Rev. 1, 06/2013; PackageReference: LQFP100; PackageDescription: 100-Pin Low Profile Quad Flat Package, 14 x 14 mm Body, 0.5 mm Pitch; Supplier 1: Newark; Supplier Part Number 1: 19X6230; Supplier 2: Mouser; Supplier Part Number 2: 511-STM32F427VIT7TR; Core: ARM Cortex-M4; Packing: Tape and Reel; Mounting Technology: Surface Mount; ComponentLink1Description: Manufacturer URL; ComponentLink1URL: http://www.st.com/web/en/home.html; ComponentLink2Description: Datasheet; ComponentLink2URL: http://www.st.com/st-web-ui/static/active/en/resource/technical/document/datasheet/DM00071990.pdf; ComponentLink3Description: Package Specification; ComponentLink3URL: http://www.st.com/st-web-ui/static/active/en/resource/technical/document/data_brief/DM00071938.pdf
footprint STM-LQFP100_N (Thin QFP, 100-Leads, Body 14x14mm, Pitch 0.5mm, IPC Medium Density)
footprint STM-LQFP100_L (Thin QFP, 100-Leads, Body 14x14mm, Pitch 0.5mm, IPC High Density)
footprint STM-LQFP100_M (Thin QFP, 100-Leads, Body 14x14mm, Pitch 0.5mm, IPC Low Density)
footprint STM-LQFP100_V (Thin QFP, 100-Leads, Body 14x14mm, Pitch 0.5mm, ST Recommended)
part A pins: 1 PE2 (io) "PE2/TRACECLK,FSMC_A23,ETH_MII_TXD3,EVENTOUT,SPI4_SCK", 2 PE3 (io) "PE3/TRACED0,FSMC_A19,EVENTOUT,SPI4_NSS", 3 PE4 (io) "PE4/TRACED1,FSMC_A20,DCMI_D4,EVENTOUT,SPI4_NSS", 4 PE5 (io) "PE5/TRACED2,FSMC_A21,TIM9_CH1,DCMI_D6,EVENTOUT,SPI4_MISO", 5 PE6 (io) "PE6/TRACED3,FSMC_A22,TIM9_CH2,DCMI_D7,EVENTOUT,SPI4_MOSI", 7 PC13 (io) "PC13/EVENTOUT/RTC_OUT,RTC_TAMP1,RTC_TS", 8 PC14-OSC32_IN(PC14) (io) "PC14-OSC32_IN(PC14)/EVENTOUT/OSC32_IN", 9 PC15-OSC32_OUT(PC15) (io) "PC15-OSC32_OUT(PC15)/EVENTOUT/OSC32_OUT", 12 PH0-OSC_IN(PH0) (io) "PH0-OSC_IN(PH0)/EVENTOUT/OSC_IN", 13 PH1-OSC_OUT(PH1) (io) "PH1-OSC_OUT(PH1)/EVENTOUT/OSC_OUT", 14 NRST (io), 15 PC0 (io) "PC0/OTG_HS_ULPI_STP,EVENTOUT/ADC123_IN10", 16 PC1 (io) "PC1/ETH_MDC,EVENTOUT/ADC123_IN11", 17 PC2 (io) "PC2/SPI2_MISO,OTG_HS_ULPI_DIR,ETH_MII_TXD2,I2S2ext_SD,EVENTOUT/ADC123_IN12", 18 PC3 (io) "PC3/SPI2_MOSI/I2S2_SD,OTG_HS_ULPI_NXT,ETH_MII_TX_CLK,EVENTOUT/ADC123_IN13", 23 PA0-WKUP(PA0) (io) "PA0-WKUP(PA0)/USART2_CTS,UART4_TX,ETH_MII_CRS,TIM2_CH1_ETR,TIM5_CH1,TIM8_ETR,EVENTOUT/ADC123_IN0,WKUP", 24 PA1 (io) "PA1/USART2_RTS,UART4_RX,ETH_RMII_REF_CLK,ETH_MII_RX_CLK,TIM5_CH2,TIMM2_CH2,EVENTOUT/ADC123_IN1", 25 PA2 (io) "PA2/USART2_TX,TIM5_CH3,TIM9_CH1,TIM2_CH3,ETH_MDIO,EVENTOUT/ADC123_IN2", 26 PA3 (io) "PA3/USART2_RX,TIM5_CH4,TIM9_CH2,TIM2_CH4,OTG_HS_ULPI_D0,ETH_MII_COL,EVENTOUT/ADC123_IN3", 29 PA4 (io) "PA4/SPI1_NSS,SPI3_NSS,USART2_CK,DCMI_HSYNC,OTG_HS_SOF,I2S3_WS,EVENTOUT/ADC12_IN4,DAC1_OUT", 30 PA5 (io) "PA5/SPI1_SCK,OTG_HS_ULPI_CK,TIM2_CH1_ETR,TIM8_CH1N,EVENTOUT/ADC12_IN5,DAC2_OUT", 31 PA6 (io) "PA6/SPI1_MISO,TIM8_BKIN,TIM13_CH1,DCMI_PIXCLK,TIM3_CH1,TIM1_BKIN,EVENTOUT/ADC12_IN6", 32 PA7 (io) "PA7/SPI1_MOSI,TIM8_CH1N,TIM14_CH1,TIM3_CH2,ETH_MII_RX_DV,TIM1_CH1N,ETH_RMII_CRS_DV,EVENTOUT/ADC12_IN7", 33 PC4 (io) "PC4/ETH_RMII_RX_D0,ETH_MII_RX_D0,EVENTOUT/ADC12_IN14", 34 PC5 (io) "PC5/ETH_RMII_RX_D1,ETH_MII_RX_D1,EVENTOUT/ADC12_IN15", 35 PB0 (io) "PB0/TIM3_CH3,TIM8_CH2N,OTG_HS_ULPI_D1,ETH_MII_RXD2,TIM1_CH2N,EVENTOUT/ADC12_IN8", 36 PB1 (io) "PB1/TIM3_CH4,TIM8_CH3N,OTG_HS_ULPI_D2,ETH_MII_RXD3,TIM1_CH3N,EVENTOUT/ADC12_IN9", 37 PB2-BOOT1(PB2) (io) "PB2-BOOT1(PB2)/EVENTOUT", 38 PE7 (io) "PE7/FSMC_D4,TIM1_ETR,EVENTOUT,UART7_RX", 39 PE8 (io) "PE8/FSMC_D5,TIM1_CH1N,EVENTOUT,UART7_TX", 40 PE9 (io) "PE9/FSMC_D6,TIM1_CH1,EVENTOUT", 41 PE10 (io) "PE10/FSMC_D7,TIM1_CH2N,EVENTOUT", 42 PE11 (io) "PE11/FSMC_D8,TIM1_CH2,EVENTOUT,SPI4_NSS", 43 PE12 (io) "PE12/FSMC_D9,TIM1_CH3N,EVENTOUT,SPI4_SCK", 44 PE13 (io) "PE13/FSMC_D10,TIM1_CH3,EVENTOUT,SPI4_MISO", 45 PE14 (io) "PE14/FSMC_D11,TIM1_CH4,EVENTOUT,SPI4_MOSI", 46 PE15 (io) "PE15/FSMC_D12,TIM1_BKIN,EVENTOUT", 47 PB10 (io) "PB10/SPI2_SCK/I2S2_CK,I2C2_SCL,USART3_TX,OTG_HS_ULPI_D3,ETH_MII_RX_ER,TIM2_CH3,EVENTOUT", 48 PB11 (io) "PB11/I2C2_SDA,USART3_RX,OTG_HS_ULPI_D4,ETH_RMII_TX_EN,ETH_MII_TX_EN,TIM2_CH4,EVENTOUT", 49 VCAP_1 (power), 51 PB12 (io) "PB12/SPI2_NSS/I2S2_WS,I2C2_SMBA,USART3_CK,TIM1_BKIN,CAN2_RX,OTG_HS_ULPI_D5,ETH_RMII_TXD0,ETH_MII_TXD0,OTG_HS_ID,EVENTOUT", 52 PB13 (io) "PB13/SPI2_SCK/I2S2_CK,USART3_CTS,TIM1_CH1N,CAN2_TX,OTG_HS_ULPI_D6,ETH_RMII_TXD1,ETH_MII_TXD1,EVENTOUT/OTG_HS_VBUS", 53 PB14 (io) "PB14/SPI2_MISO,TIM1_CH2N,TIM12_CH1,OTG_HS_DM,USART3_RTS,TIM8_CH2N,I2S2ext_SD,EVENTOUT", 54 PB15 (io) "PB15/SPI2_MOSI/I2S2_SD,TIM1_CH3N,TIM8_CH3N,TIM12_CH2,OTG_HS_DP,EVENTOUT,RTC_REFIN", 55 PD8 (io) "PD8/FSMC_D13,USART3_TX,EVENTOUT", 56 PD9 (io) "PD9/FSMC_D14,USART3_RX,EVENTOUT", 57 PD10 (io) "PD10/FSMC_D15,USART3_CK,EVENTOUT", 58 PD11 (io) "PD11/FSMC_CLE,FSMC_A16,USART3_CTS,EVENTOUT", 59 PD12 (io) "PD12/FSMC_ALE,FSMC_A17,TIM4_CH1,USART3_RTS,EVENTOUT", 60 PD13 (io) "PD13/FSMC_A18,TIM4_CH2,EVENTOUT", 61 PD14 (io) "PD14/FSMC_D0,TIM4_CH3,EVENTOUT", 62 PD15 (io) "PD15/FSMC_D1,TIM4_CH4,EVENTOUT", 63 PC6 (io) "PC6/I2S2_MCK,TIM8_CH1,SDIO_D6,USART6_TX,DCMI_D0,TIM3_CH1,EVENTOUT", 64 PC7 (io) "PC7/I2S3_MCK,TIM8_CH2,SDIO_D7,USART6_RX,DCMI_D1,TIM3_CH2,EVENTOUT", 65 PC8 (io) "PC8/TIM8_CH3,SDIO_D0,TIM3_CH3,USART6_CK,DCMI_D2,EVENTOUT", 66 PC9 (io) "PC9/I2S_CKIN,MCO2,TIM8_CH4,SDIO_D1,I2C3_SDA,DCMI_D3,TIM3_CH4,EVENTOUT", 67 PA8 (io) "PA8/MCO1,USART1_CK,TIM1_CH1,I2C3_SCL,OTG_FS_SOF,EVENTOUT", 68 PA9 (io) "PA9/USART1_TX,TIM1_CH2,I2C3_SMBA,DCMI_D0,EVENTOUT/OTG_FS_VBUS", 69 PA10 (io) "PA10/USART1_RX,TIM1_CH3,OTG_FS_ID,DCMI_D1,EVENTOUT", 70 PA11 (io) "PA11/USART1_CTS,CAN1_RX,TIM1_CH4,OTG_FS_DM,EVENTOUT", 71 PA12 (io) "PA12/USART1_RTS,CAN1_TX,TIM1_ETR,OTG_FS_DP,EVENTOUT", 72 PA13(JTMS-SWDIO) (io) "PA13(JTMS-SWDIO)/JTMS-SWDIO,EVENTOUT", 73 VCAP_2 (power), 76 PA14(JTCK-SWCLK) (io) "PA14(JTCK-SWCLK)/JTCK-SWCLK,EVENTOUT", 77 PA15(JTDI) (io) "PA15(JTDI)/JTDI,SPI3_NSS,I2S3_WS,TIM2_CH1_ETR,SPI1_NSS,EVENTOUT", 78 PC10 (io) "PC10/SPI3_SCK/I2S3_CK,UART4_TX,SDIO_D2,DCMI_D8,USART3_TX,EVENTOUT", 79 PC11 (io) "PC11/UART4_RX,SPI3_MISO,SDIO_D3,DCMI_D4,USART3_RX,I2S3ext_SD,EVENTOUT", 80 PC12 (io) "PC12/UART5_TX,SDIO_CK,DCMI_D9,SPI3_MOSI,I2S3_SD,USART3_CK,EVENTOUT", 81 PD0 (io) "PD0/FSMC_D2,CAN1_RX,EVENTOUT", 82 PD1 (io) "PD1/FSMC_D3,CAN1_TX,EVENTOUT", 83 PD2 (io) "PD2/TIM3_ETR,UART5_RX,SDIO_CMD,DCMI_D11,EVENTOUT", 84 PD3 (io) "PD3/FSMC_CLK,USART2_CTS,EVENTOUT,SPI2_SCK,I2S2_CK,DCMI_D5", 85 PD4 (io) "PD4/FSMC_NOE,USART2_RTS,EVENTOUT", 86 PD5 (io) "PD5/FSMC_NWE,USART2_TX,EVENTOUT", 87 PD6 (io) "PD6/FSMC_NWAIT,USART2_RX,EVENTOUT,SPI3_MOSI,I2S3_MOSI,DCMI_D10", 88 PD7 (io) "PD7/USART2_CK,FSMC_NE1,FSMC_NCE2,EVENTOUT", 89 PB3(JTDO/TRACESWO) (io) "PB3(JTDO/TRACESWO)/JTDO/TRACESWO,SPI3_SCK/I2S3_CK,TIM2_CH2,SPI1_SCK,EVENTOUT", 90 PB4(NJTRST) (io) "PB4(NJTRST)/NJTRST,SPI3_MISO,TIM3_CH1,SPI1_MISO,I2S3ext_SD,EVENTOUT", 91 PB5 (io) "PB5/I2C1_SMBA,CAN2_RX,OTG_HS_ULPI_D7,ETH_PPS_OUT,TIM3_CH2,SPI1_MOSI,SPI3_MOSI,DCMI_D10,I2S3_SD,EVENTOUT", 92 PB6 (io) "PB6/I2C1_SCL,TIM4_CH1,CAN2_TX,DCMI_D5,USART1_TX,EVENTOUT", 93 PB7 (io) "PB7/I2C1_SDA,FSMC_NL(NADV),DCMI_VSYNC,USART1_RX,TIM4_CH2,EVENTOUT", 94 BOOT0 (in) "BOOT0/VPP", 95 PB8 (io) "PB8/TIM4_CH3,SDIO_D4,TIM10_CH1,DCMI_D6,ETH_MII_TXD3,I2C1_SCL,CAN1_RX,EVENTOUT", 96 PB9 (io) "PB9/SPI2_NSS/I2S2_WS,TIM4_CH4,TIM11_CH1,SDIO_D5,DCMI_D7,I2C1_SDA,CAN1_TX,EVENTOUT", 97 PE0 (io) "PE0/TIM4_ETR,FSMC_NBL0,DCMI_D2,EVENTOUT,UART8_RX", 98 PE1 (io) "PE1/FSMC_NBL1,DCMI_D3,EVENTOUT,UART8_TX"
part B pins: 6 VBAT (power), 10 VSS (power), 11 VDD (power), 19 VDD (power), 20 VSSA (power), 21 VREF+ (power), 22 VDDA (power), 27 VSS (power), 28 VDD (power), 50 VDD (power), 74 VSS (power), 75 VDD (power), 99 VSS (power), 100 VDD (power)

## STM32F427ZGT6
designator U?
ARM Cortex-M4 32-bit MCU+FPU, 210 DMIPS, 1024 kB Flash, 256 kB Internal RAM, 114 I/Os, 144-pin LQFP, -40 to 85 degC, Tray; Manufacturer: STMicroelectronics; PartNumber: STM32F427ZGT6; D/A Converter: 2x12-bit; FLASH Size (Prog) (kB): 1024; I/Os (High Current): 114; Internal RAM Size (kB): 256; Operating Frequency(F) (Processor speed) (MHz): 168; Supply Voltage(Vcc) max (V): 3.6; Supply Voltage(Vcc) min (V): 1.8; DatasheetVersion: Rev. 1; PackageVersion: Rev. 4, 06/2013; PackageReference: LQFP144; PackageDescription: 144-Pin Low Profile Quad Flat Package, 20 x 20 mm Body, 0.5 mm Pitch; Supplier 1: Digi-Key; Supplier Part Number 1: STM32F427ZGT6-ND; Supplier 2: Farnell; Supplier Part Number 2: 2333370; Supplier 3: Newark; Supplier Part Number 3: 99W9928; Supplier 4: Newark; Supplier Part Number 4: 66W7313; Supplier 5: Mouser; Supplier Part Number 5: 511-STM32F427ZGT6; Core: ARM Cortex-M4; Packing: Tray; Mounting Technology: Surface Mount; ComponentLink1Description: Manufacturer URL; ComponentLink1URL: http://www.st.com/web/en/home.html; ComponentLink2Description: Datasheet; ComponentLink2URL: http://www.st.com/st-web-ui/static/active/en/resource/technical/document/datasheet/DM00071990.pdf; ComponentLink3Description: Package Specification; ComponentLink3URL: http://www.st.com/st-web-ui/static/active/en/resource/technical/document/datasheet/DM00037051.pdf
footprint STM-LQFP144_N (Thin QFP, 144-Leads, Body 20x20mm, Pitch 0.5mm, IPC Medium Density)
footprint STM-LQFP144_L (Thin QFP, 144-Leads, Body 20x20mm, Pitch 0.5mm, IPC High Density)
footprint STM-LQFP144_M (Thin QFP, 144-Leads, Body 20x20mm, Pitch 0.5mm, IPC Low Density)
footprint STM-LQFP144_V (Thin QFP, 144-Leads, Body 20x20mm, Pitch 0.5mm, ST Recommended)
part A pins: 7 PC13 (io) "PC13/EVENTOUT/RTC_OUT,RTC_TAMP1,RTC_TS", 8 PC14-OSC32_IN(PC14) (io) "PC14-OSC32_IN(PC14)/EVENTOUT/OSC32_IN", 9 PC15-OSC32_OUT(PC15) (io) "PC15-OSC32_OUT(PC15)/EVENTOUT/OSC32_OUT", 26 PC0 (io) "PC0/OTG_HS_ULPI_STP,EVENTOUT/ADC123_IN10", 27 PC1 (io) "PC1/ETH_MDC,EVENTOUT/ADC123_IN11", 28 PC2 (io) "PC2/SPI2_MISO,OTG_HS_ULPI_DIR,ETH_MII_TXD2,I2S2ext_SD,EVENTOUT/ADC123_IN12", 29 PC3 (io) "PC3/SPI2_MOSI/I2S2_SD,OTG_HS_ULPI_NXT,ETH_MII_TX_CLK,EVENTOUT/ADC123_IN13", 34 PA0-WKUP(PA0) (io) "PA0-WKUP(PA0)/USART2_CTS,UART4_TX,ETH_MII_CRS,TIM2_CH1_ETR,TIM5_CH1,TIM8_ETR,EVENTOUT/ADC123_IN0,WKUP", 35 PA1 (io) "PA1/USART2_RTS,UART4_RX,ETH_RMII_REF_CLK,ETH_MII_RX_CLK,TIM5_CH2,TIMM2_CH2,EVENTOUT/ADC123_IN1", 36 PA2 (io) "PA2/USART2_TX,TIM5_CH3,TIM9_CH1,TIM2_CH3,ETH_MDIO,EVENTOUT/ADC123_IN2", 37 PA3 (io) "PA3/USART2_RX,TIM5_CH4,TIM9_CH2,TIM2_CH4,OTG_HS_ULPI_D0,ETH_MII_COL,EVENTOUT/ADC123_IN3", 40 PA4 (io) "PA4/SPI1_NSS,SPI3_NSS,USART2_CK,DCMI_HSYNC,OTG_HS_SOF,I2S3_WS,EVENTOUT/ADC12_IN4,DAC1_OUT", 41 PA5 (io) "PA5/SPI1_SCK,OTG_HS_ULPI_CK,TIM2_CH1_ETR,TIM8_CH1N,EVENTOUT/ADC12_IN5,DAC2_OUT", 42 PA6 (io) "PA6/SPI1_MISO,TIM8_BKIN,TIM13_CH1,DCMI_PIXCLK,TIM3_CH1,TIM1_BKIN,EVENTOUT/ADC12_IN6", 43 PA7 (io) "PA7/SPI1_MOSI,TIM8_CH1N,TIM14_CH1,TIM3_CH2,ETH_MII_RX_DV,TIM1_CH1N,ETH_RMII_CRS_DV,EVENTOUT/ADC12_IN7", 44 PC4 (io) "PC4/ETH_RMII_RX_D0,ETH_MII_RX_D0,EVENTOUT/ADC12_IN14", 45 PC5 (io) "PC5/ETH_RMII_RX_D1,ETH_MII_RX_D1,EVENTOUT/ADC12_IN15", 46 PB0 (io) "PB0/TIM3_CH3,TIM8_CH2N,OTG_HS_ULPI_D1,ETH_MII_RXD2,TIM1_CH2N,EVENTOUT/ADC12_IN8", 47 PB1 (io) "PB1/TIM3_CH4,TIM8_CH3N,OTG_HS_ULPI_D2,ETH_MII_RXD3,TIM1_CH3N,EVENTOUT/ADC12_IN9", 48 PB2-BOOT1(PB2) (io) "PB2-BOOT1(PB2)/EVENTOUT", 69 PB10 (io) "PB10/SPI2_SCK/I2S2_CK,I2C2_SCL,USART3_TX,OTG_HS_ULPI_D3,ETH_MII_RX_ER,TIM2_CH3,EVENTOUT", 70 PB11 (io) "PB11/I2C2_SDA,USART3_RX,OTG_HS_ULPI_D4,ETH_RMII_TX_EN,ETH_MII_TX_EN,TIM2_CH4,EVENTOUT", 73 PB12 (io) "PB12/SPI2_NSS/I2S2_WS,I2C2_SMBA,USART3_CK,TIM1_BKIN,CAN2_RX,OTG_HS_ULPI_D5,ETH_RMII_TXD0,ETH_MII_TXD0,OTG_HS_ID,EVENTOUT", 74 PB13 (io) "PB13/SPI2_SCK/I2S2_CK,USART3_CTS,TIM1_CH1N,CAN2_TX,OTG_HS_ULPI_D6,ETH_RMII_TXD1,ETH_MII_TXD1,EVENTOUT/OTG_HS_VBUS", 75 PB14 (io) "PB14/SPI2_MISO,TIM1_CH2N,TIM12_CH1,OTG_HS_DM,USART3_RTS,TIM8_CH2N,I2S2ext_SD,EVENTOUT", 76 PB15 (io) "PB15/SPI2_MOSI/I2S2_SD,TIM1_CH3N,TIM8_CH3N,TIM12_CH2,OTG_HS_DP,EVENTOUT,RTC_REFIN", 77 PD8 (io) "PD8/FSMC_D13,USART3_TX,EVENTOUT", 78 PD9 (io) "PD9/FSMC_D14,USART3_RX,EVENTOUT", 79 PD10 (io) "PD10/FSMC_D15,USART3_CK,EVENTOUT", 80 PD11 (io) "PD11/FSMC_CLE,FSMC_A16,USART3_CTS,EVENTOUT", 81 PD12 (io) "PD12/FSMC_ALE,FSMC_A17,TIM4_CH1,USART3_RTS,EVENTOUT", 82 PD13 (io) "PD13/FSMC_A18,TIM4_CH2,EVENTOUT", 85 PD14 (io) "PD14/FSMC_D0,TIM4_CH3,EVENTOUT", 86 PD15 (io) "PD15/FSMC_D1,TIM4_CH4,EVENTOUT", 96 PC6 (io) "PC6/I2S2_MCK,TIM8_CH1,SDIO_D6,USART6_TX,DCMI_D0,TIM3_CH1,EVENTOUT", 97 PC7 (io) "PC7/I2S3_MCK,TIM8_CH2,SDIO_D7,USART6_RX,DCMI_D1,TIM3_CH2,EVENTOUT", 98 PC8 (io) "PC8/TIM8_CH3,SDIO_D0,TIM3_CH3,USART6_CK,DCMI_D2,EVENTOUT", 99 PC9 (io) "PC9/I2S_CKIN,MCO2,TIM8_CH4,SDIO_D1,I2C3_SDA,DCMI_D3,TIM3_CH4,EVENTOUT", 100 PA8 (io) "PA8/MCO1,USART1_CK,TIM1_CH1,I2C3_SCL,OTG_FS_SOF,EVENTOUT", 101 PA9 (io) "PA9/USART1_TX,TIM1_CH2,I2C3_SMBA,DCMI_D0,EVENTOUT/OTG_FS_VBUS", 102 PA10 (io) "PA10/USART1_RX,TIM1_CH3,OTG_FS_ID,DCMI_D1,EVENTOUT", 103 PA11 (io) "PA11/USART1_CTS,CAN1_RX,TIM1_CH4,OTG_FS_DM,EVENTOUT", 104 PA12 (io) "PA12/USART1_RTS,CAN1_TX,TIM1_ETR,OTG_FS_DP,EVENTOUT", 105 PA13(JTMS-SWDIO) (io) "PA13(JTMS-SWDIO)/JTMS-SWDIO,EVENTOUT", 109 PA14(JTCK-SWCLK) (io) "PA14(JTCK-SWCLK)/JTCK-SWCLK,EVENTOUT", 110 PA15(JTDI) (io) "PA15(JTDI)/JTDI,SPI3_NSS,I2S3_WS,TIM2_CH1_ETR,SPI1_NSS,EVENTOUT", 111 PC10 (io) "PC10/SPI3_SCK/I2S3_CK,UART4_TX,SDIO_D2,DCMI_D8,USART3_TX,EVENTOUT", 112 PC11 (io) "PC11/UART4_RX,SPI3_MISO,SDIO_D3,DCMI_D4,USART3_RX,I2S3ext_SD,EVENTOUT", 113 PC12 (io) "PC12/UART5_TX,SDIO_CK,DCMI_D9,SPI3_MOSI,I2S3_SD,USART3_CK,EVENTOUT", 114 PD0 (io) "PD0/FSMC_D2,CAN1_RX,EVENTOUT", 115 PD1 (io) "PD1/FSMC_D3,CAN1_TX,EVENTOUT", 116 PD2 (io) "PD2/TIM3_ETR,UART5_RX,SDIO_CMD,DCMI_D11,EVENTOUT", 117 PD3 (io) "PD3/FSMC_CLK,USART2_CTS,EVENTOUT,SPI2_SCK,I2S2_CK,DCMI_D5", 118 PD4 (io) "PD4/FSMC_NOE,USART2_RTS,EVENTOUT", 119 PD5 (io) "PD5/FSMC_NWE,USART2_TX,EVENTOUT", 122 PD6 (io) "PD6/FSMC_NWAIT,USART2_RX,EVENTOUT,SPI3_MOSI,I2S3_MOSI,DCMI_D10", 123 PD7 (io) "PD7/USART2_CK,FSMC_NE1,FSMC_NCE2,EVENTOUT", 133 PB3(JTDO/TRACESWO) (io) "PB3(JTDO/TRACESWO)/JTDO/TRACESWO,SPI3_SCK/I2S3_CK,TIM2_CH2,SPI1_SCK,EVENTOUT", 134 PB4(NJTRST) (io) "PB4(NJTRST)/NJTRST,SPI3_MISO,TIM3_CH1,SPI1_MISO,I2S3ext_SD,EVENTOUT", 135 PB5 (io) "PB5/I2C1_SMBA,CAN2_RX,OTG_HS_ULPI_D7,ETH_PPS_OUT,TIM3_CH2,SPI1_MOSI,SPI3_MOSI,DCMI_D10,I2S3_SD,EVENTOUT", 136 PB6 (io) "PB6/I2C1_SCL,TIM4_CH1,CAN2_TX,DCMI_D5,USART1_TX,EVENTOUT", 137 PB7 (io) "PB7/I2C1_SDA,FSMC_NL(NADV),DCMI_VSYNC,USART1_RX,TIM4_CH2,EVENTOUT", 139 PB8 (io) "PB8/TIM4_CH3,SDIO_D4,TIM10_CH1,DCMI_D6,ETH_MII_TXD3,I2C1_SCL,CAN1_RX,EVENTOUT", 140 PB9 (io) "PB9/SPI2_NSS/I2S2_WS,TIM4_CH4,TIM11_CH1,SDIO_D5,DCMI_D7,I2C1_SDA,CAN1_TX,EVENTOUT"
part B pins: 1 PE2 (io) "PE2/TRACECLK,FSMC_A23,ETH_MII_TXD3,EVENTOUT,SPI4_SCK", 2 PE3 (io) "PE3/TRACED0,FSMC_A19,EVENTOUT,SPI4_NSS", 3 PE4 (io) "PE4/TRACED1,FSMC_A20,DCMI_D4,EVENTOUT,SPI4_NSS", 4 PE5 (io) "PE5/TRACED2,FSMC_A21,TIM9_CH1,DCMI_D6,EVENTOUT,SPI4_MISO", 5 PE6 (io) "PE6/TRACED3,FSMC_A22,TIM9_CH2,DCMI_D7,EVENTOUT,SPI4_MOSI", 10 PF0 (io) "PF0/FSMC_A0,I2C2_SDA,EVENTOUT", 11 PF1 (io) "PF1/FSMC_A1,I2C2_SCL,EVENTOUT", 12 PF2 (io) "PF2/FSMC_A2,I2C2_SMBA,EVENTOUT", 13 PF3 (io) "PF3/FSMC_A3,EVENTOUT/ADC3_IN9", 14 PF4 (io) "PF4/FSMC_A4,EVENTOUT/ADC3_IN14", 15 PF5 (io) "PF5/FSMC_A5,EVENTOUT/ADC3_IN15", 18 PF6 (io) "PF6/TIM10_CH1,FSMC_NIORD,EVENTOUT,SPI5_NSS,UART7_RX/ADC3_IN4", 19 PF7 (io) "PF7/TIM11_CH1,FSMC_NREG,EVENTOUT,SPI5_SCK,UART7_TX/ADC3_IN5", 20 PF8 (io) "PF8/TIM13_CH1,FSMC_NIOWR,EVENTOUT,SPI5_MISO/ADC3_IN6", 21 PF9 (io) "PF9/TIM14_CH1,FSMC_CD,EVENTOUT,SPI5_MOSI/ADC3_IN7", 22 PF10 (io) "PF10/FSMC_INTR,EVENTOUT,DCMI_D11/ADC3_IN8", 23 PH0-OSC_IN(PH0) (io) "PH0-OSC_IN(PH0)/EVENTOUT/OSC_IN", 24 PH1-OSC_OUT(PH1) (io) "PH1-OSC_OUT(PH1)/EVENTOUT/OSC_OUT", 25 NRST (io), 49 PF11 (io) "PF11/DCMI_D12,EVENTOUT,SPI5_MOSI", 50 PF12 (io) "PF12/FSMC_A6,EVENTOUT", 53 PF13 (io) "PF13/FSMC_A7,EVENTOUT", 54 PF14 (io) "PF14/FSMC_A8,EVENTOUT", 55 PF15 (io) "PF15/FSMC_A9,EVENTOUT", 56 PG0 (io) "PG0/FSMC_A10,EVENTOUT", 57 PG1 (io) "PG1/FSMC_A11,EVENTOUT", 58 PE7 (io) "PE7/FSMC_D4,TIM1_ETR,EVENTOUT,UART7_RX", 59 PE8 (io) "PE8/FSMC_D5,TIM1_CH1N,EVENTOUT,UART7_TX", 60 PE9 (io) "PE9/FSMC_D6,TIM1_CH1,EVENTOUT", 63 PE10 (io) "PE10/FSMC_D7,TIM1_CH2N,EVENTOUT", 64 PE11 (io) "PE11/FSMC_D8,TIM1_CH2,EVENTOUT,SPI4_NSS", 65 PE12 (io) "PE12/FSMC_D9,TIM1_CH3N,EVENTOUT,SPI4_SCK", 66 PE13 (io) "PE13/FSMC_D10,TIM1_CH3,EVENTOUT,SPI4_MISO", 67 PE14 (io) "PE14/FSMC_D11,TIM1_CH4,EVENTOUT,SPI4_MOSI", 68 PE15 (io) "PE15/FSMC_D12,TIM1_BKIN,EVENTOUT", 71 VCAP_1 (power), 87 PG2 (io) "PG2/FSMC_A12,EVENTOUT", 88 PG3 (io) "PG3/FSMC_A13,EVENTOUT", 89 PG4 (io) "PG4/FSMC_A14,EVENTOUT", 90 PG5 (io) "PG5/FSMC_A15,EVENTOUT", 91 PG6 (io) "PG6/FSMC_INT2,EVENTOUT,DCMI_D12", 92 PG7 (io) "PG7/FSMC_INT3,USART6_CK,EVENTOUT,DCMI_D13", 93 PG8 (io) "PG8/USART6_RTS,ETH_PPS_OUT,EVENTOUT,SPI6_NSS", 106 VCAP_2 (power), 124 PG9 (io) "PG9/USART6_RX,FSMC_NE2,FSMC_NCE3,EVENTOUT", 125 PG10 (io) "PG10/FSMC_NCE4_1,FSMC_NE3,EVENTOUT,DCMI_D2", 126 PG11 (io) "PG11/FSMC_NCE4_2,ETH_MII_TX_EN,ETH_RMII_TX_EN,EVENTOUT,DCMI_D3", 127 PG12 (io) "PG12/FSMC_NE4,USART6_RTS,EVENTOUT,SPI6_MISO", 128 PG13 (io) "PG13/FSMC_A24,USART6_CTS,ETH_MII_TXD0,ETH_RMII_TXD0,EVENTOUT,SPI6_SCK", 129 PG14 (io) "PG14/FSMC_A25,USART6_TX,ETH_MII_TXD1,ETH_RMII_TXD1,EVENTOUT,SPI6_MOSI", 132 PG15 (io) "PG15/USART6_CTS,DCMI_D13,EVENTOUT", 138 BOOT0 (in) "BOOT0/VPP", 141 PE0 (io) "PE0/TIM4_ETR,FSMC_NBL0,DCMI_D2,EVENTOUT,UART8_RX", 142 PE1 (io) "PE1/FSMC_NBL1,DCMI_D3,EVENTOUT,UART8_TX", 143 PDR_ON (in)
part C pins: 6 VBAT (power), 16 VSS (power), 17 VDD (power), 30 VDD (power), 31 VSSA (power), 32 VREF+ (power), 33 VDDA (power), 38 VSS (power), 39 VDD (power), 51 VSS (power), 52 VDD (power), 61 VSS (power), 62 VDD (power), 72 VDD (power), 83 VSS (power), 84 VDD (power), 94 VSS (power), 95 VDD (power), 107 VSS (power), 108 VDD (power), 120 VSS (power), 121 VDD (power), 130 VSS (power), 131 VDD (power), 144 VDD (power)